# EAGLE library part TDA7233 (library #PaJa_30)
NF zesilovac - 1W AUDIO AMPLIFIER WITH MUTE 1,8 - 15V
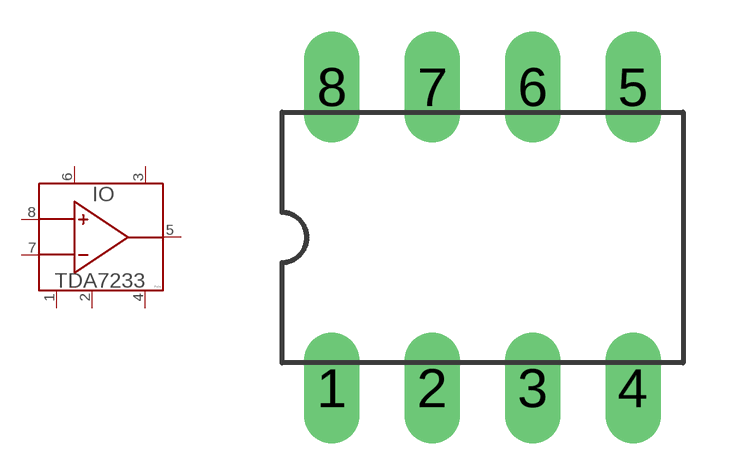
[diagram p64: symbol with the pads of DIL8; footprint DIL8]

Designator prefix IO

## TDA7233  [DIL8]
1  GND  pwr
2  MUTE  pas
3  +VCC  pwr
4  GND  pwr
5  OUT  out
6  SVR  pas
7  -IN  in
8  +IN  in

## Footprint DIL8 (pad centres in mm)
drill 0.813 pad 1.4 long: 1 -3.81,-3.81; 2 -1.27,-3.81; 3 1.27,-3.81; 4 3.81,-3.81; 5 3.81,3.81; 6 1.27,3.81; 7 -1.27,3.81; 8 -3.81,3.81